# EAGLE library part A4988 (library NikodemBartnik)
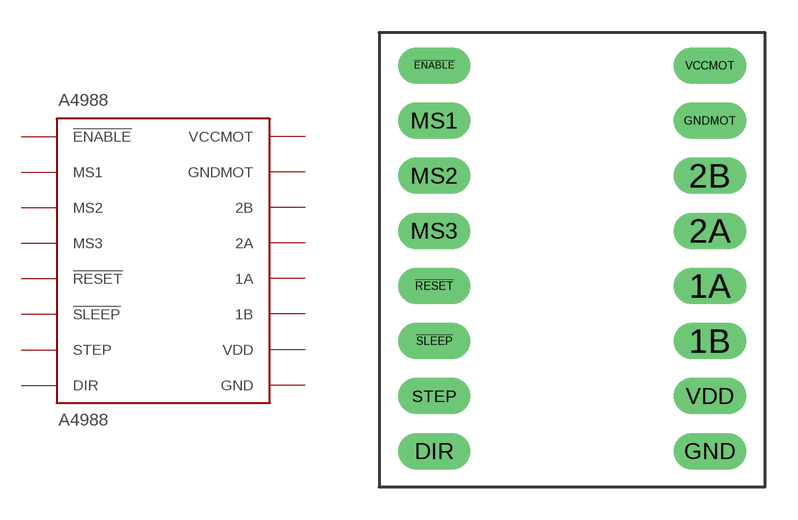
[diagram p4: symbol with the pads of A4988; footprint A4988]

Designator prefix A4988

## A4988  [A4988]
1A  1A
1B  1B
2A  2A
2B  2B
!ENABLE  !ENABLE
!RESET  !RESET
!SLEEP  !SLEEP
DIR  DIR
GND  GND
GNDMOT  GNDMOT
MS1  MS1
MS2  MS2
MS3  MS3
STEP  STEP
VCCMOT  VCCMOT
VDD  VDD

## Footprint A4988 (pad centres in mm)
drill 1 pad 1.676 long: 1A 6.35,-1.27; 1B 6.35,-3.81; 2A 6.35,1.27; 2B 6.35,3.81; !ENABLE -6.35,8.89; !RESET -6.35,-1.27; !SLEEP -6.35,-3.81; DIR -6.35,-8.89; GND 6.35,-8.89; GNDMOT 6.35,6.35; MS1 -6.35,6.35; MS2 -6.35,3.81; MS3 -6.35,1.27; STEP -6.35,-6.35; VCCMOT 6.35,8.89; VDD 6.35,-6.35